# EAGLE library part 74HC42 (library NixieDisplay)
BCD to Decimal Converter
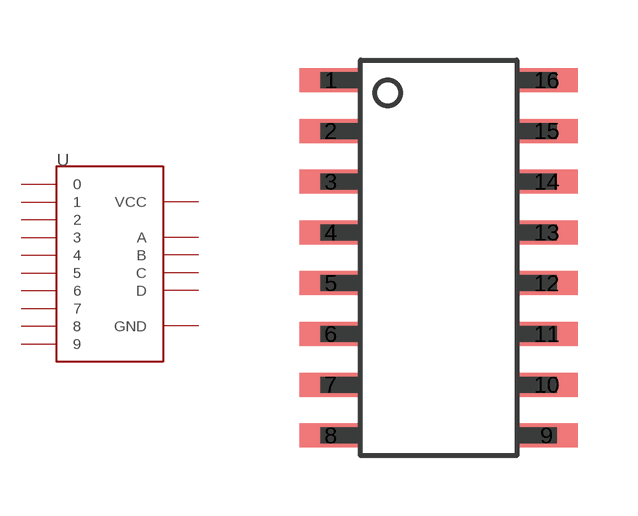
[diagram p14: symbol with the pads of SOIC-16; footprint SOIC-16]

Designator prefix U

## 74HC42  [SOIC-16]
1  0
2  1
3  2
4  3
5  4
6  5
7  6
8  GND
9  7
10  8
11  9
12  D
13  C
14  B
15  A
16  VCC

## Footprint SOIC-16 (pad centres in mm)
smd 1.55 x 0.6: 1 -2.7,4.445; 2 -2.7,3.175; 3 -2.7,1.905; 4 -2.7,0.635; 5 -2.7,-0.635; 6 -2.7,-1.905; 7 -2.7,-3.175; 8 -2.7,-4.445; 9 2.7,-4.445; 10 2.7,-3.175; 11 2.7,-1.905; 12 2.7,-0.635; 13 2.7,0.635; 14 2.7,1.905; 15 2.7,3.175; 16 2.7,4.445